# Altium schematic symbol library 74LVC1G04.SchLib: 1 symbol
Pins are listed as number, name and electrical type; pins without a type are passive.

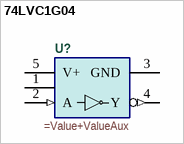
[diagram p0: symbol 74LVC1G04]

## 74LVC1G04
designator U?
=Description
pins: 1 NC, 2 A (in), 3 GND (power), 4 Y (out), 5 V+ (power)